# EAGLE library part SMKDSN1,5/8-5,08 (library CONNECTORs)
Wire-To-Board Terminal Block, 5.08 mm, 8 Ways, 26 AWG, 16 AWG, 1.5 mm², Screw
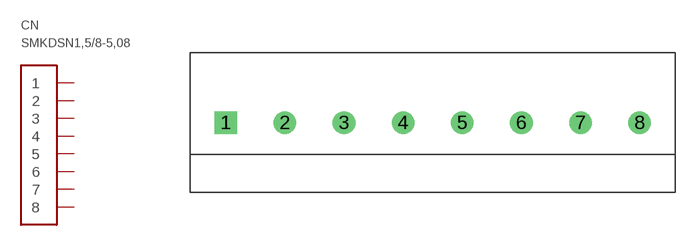
[diagram p39: symbol with the pads of SMKDSN1,5/8-5,08; footprint SMKDSN1,5/8-5,08]

Designator prefix CN

## SMKDSN1,5/8-5,08 (FARNELL: 1792911; PRICE_PER: 2.73; VALUE: 8 POLE SCREW)  [SMKDSN1,5/8-5,08]
1  1
2  2
3  3
4  4
5  5
6  6
7  7
8  8

## Footprint SMKDSN1,5/8-5,08 (pad centres in mm)
drill 1.3 square: 1 -17.78,0
drill 1.3: 2 -12.7,0; 3 -7.62,0; 4 -2.54,0; 5 2.54,0; 6 7.62,0; 7 12.7,0; 8 17.78,0